# Altium schematic symbol library Oscillator - MEMS.SchLib: 171 symbols (part 1 of 3)
Pins are listed as number, name and electrical type; pins without a type are passive.

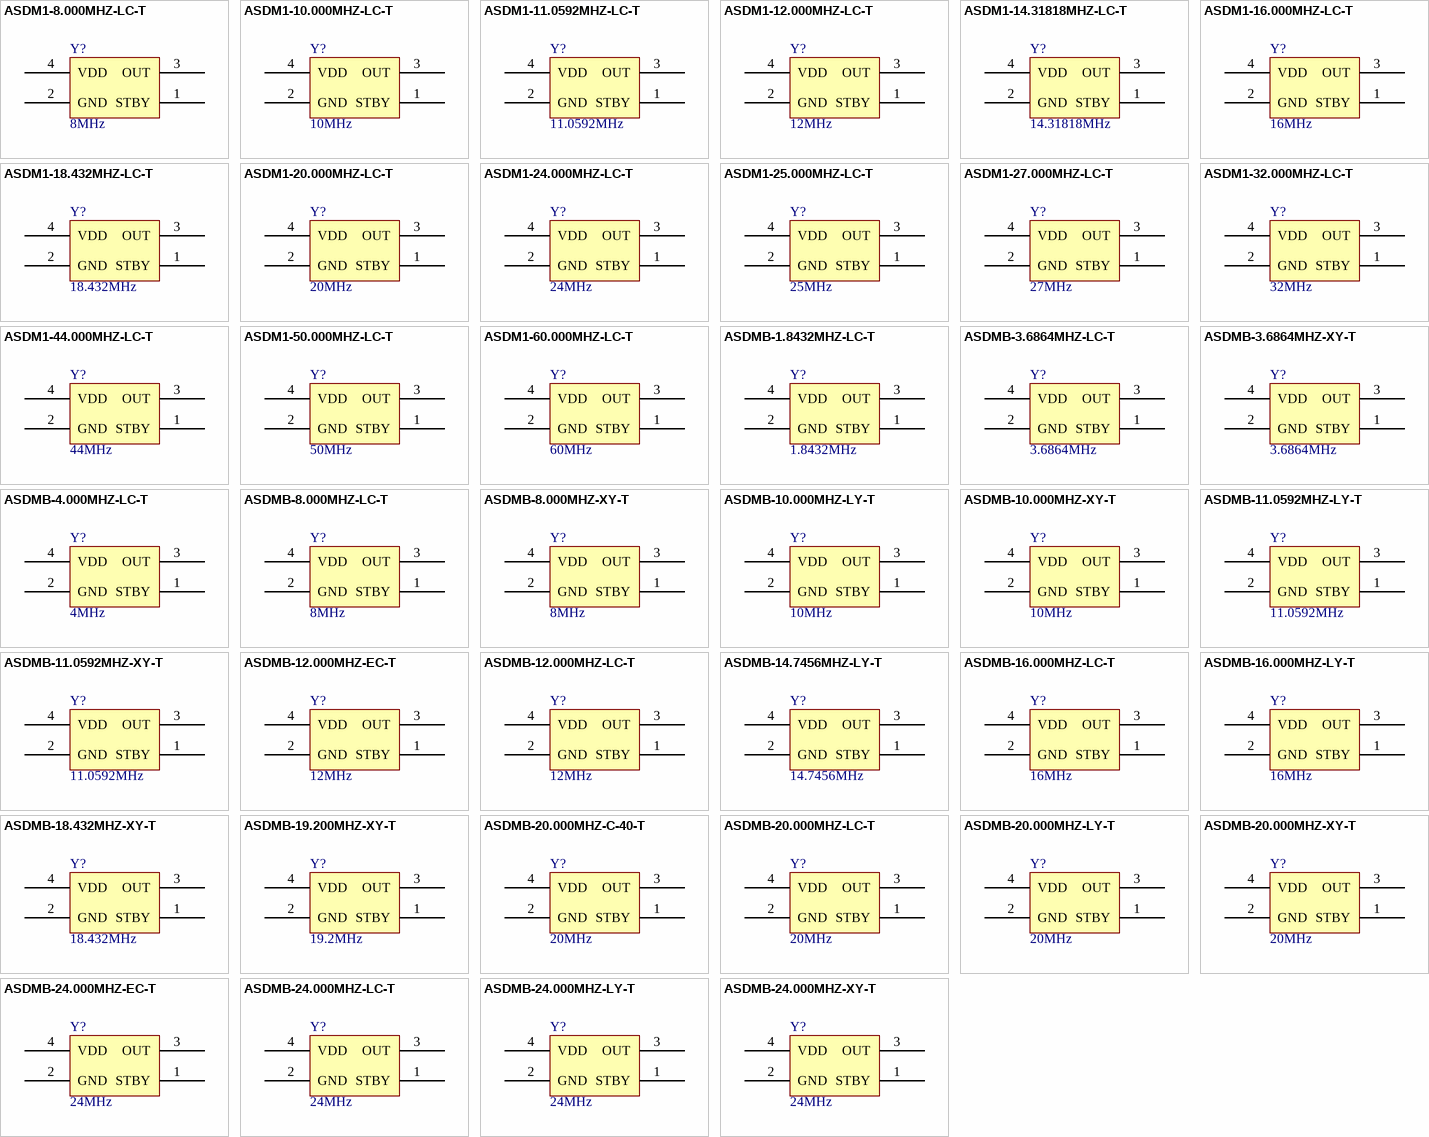
[diagram p0: symbols ASDM1-8.000MHZ-LC-T to ASDMB-24.000MHZ-XY-T]

## ASDM1-8.000MHZ-LC-T
designator Y?, comment 8MHz
OSC MEMS 8.000MHZ CMOS SMD; Part Number: ASDM1-8.000MHZ-LC-T; Manufacturer: Abracon LLC; Frequency Stability: 50ppm; PartId: 9128; Supplier 1: Digi-Key; Supplier Part Number 1: 535-9781-2-ND; ComponentLink1Description: Datasheet; ComponentLink1URL: http://www.abracon.com/Oscillators/ASDM.pdf; ComponentLink2Description: Digi-Key Listing; ComponentLink2URL: https://www.digikey.com/product-detail/en/ASDM1-8.000MHZ-LC-T/535-9781-2-ND/1873227; Price: 1.1505; Type: MEMS (Silicon); Device Package: 4-SMD, No Lead (DFN, LCC); Series: Pure Silicon™ ASDM; Frequency: 8MHz
footprint Abracon ASDM
pins: 1 STBY, 2 GND, 3 OUT, 4 VDD

## ASDM1-10.000MHZ-LC-T
designator Y?, comment 10MHz
OSC MEMS 10.000MHZ CMOS SMD; Part Number: ASDM1-10.000MHZ-LC-T; Manufacturer: Abracon LLC; Frequency Stability: 50ppm; PartId: 9127; Supplier 1: Digi-Key; Supplier Part Number 1: 535-9782-2-ND; ComponentLink1Description: Datasheet; ComponentLink1URL: http://www.abracon.com/Oscillators/ASDM.pdf; ComponentLink2Description: Digi-Key Listing; ComponentLink2URL: https://www.digikey.com/product-detail/en/ASDM1-10.000MHZ-LC-T/535-9782-2-ND/1873228; Price: 1.1505; Type: MEMS (Silicon); Device Package: 4-SMD, No Lead (DFN, LCC); Series: Pure Silicon™ ASDM; Frequency: 10MHz
footprint Abracon ASDM
pins: 1 STBY, 2 GND, 3 OUT, 4 VDD

## ASDM1-11.0592MHZ-LC-T
designator Y?, comment 11.0592MHz
OSC MEMS 11.0592MHZ CMOS SMD; Part Number: ASDM1-11.0592MHZ-LC-T; Manufacturer: Abracon LLC; Frequency Stability: 50ppm; PartId: 9131; Supplier 1: Digi-Key; Supplier Part Number 1: 535-9783-2-ND; ComponentLink1Description: Datasheet; ComponentLink1URL: http://www.abracon.com/Oscillators/ASDM.pdf; ComponentLink2Description: Digi-Key Listing; ComponentLink2URL: https://www.digikey.com/product-detail/en/ASDM1-11.0592MHZ-LC-T/535-9783-2-ND/1873229; Price: 1.1505; Type: MEMS (Silicon); Device Package: 4-SMD, No Lead (DFN, LCC); Series: Pure Silicon™ ASDM; Frequency: 11.0592MHz
footprint Abracon ASDM
pins: 1 STBY, 2 GND, 3 OUT, 4 VDD

## ASDM1-12.000MHZ-LC-T
designator Y?, comment 12MHz
OSC MEMS 12.000MHZ CMOS SMD; Part Number: ASDM1-12.000MHZ-LC-T; Manufacturer: Abracon LLC; Frequency Stability: 50ppm; PartId: 9121; Supplier 1: Digi-Key; Supplier Part Number 1: 535-9784-2-ND; ComponentLink1Description: Datasheet; ComponentLink1URL: http://www.abracon.com/Oscillators/ASDM.pdf; ComponentLink2Description: Digi-Key Listing; ComponentLink2URL: https://www.digikey.com/product-detail/en/ASDM1-12.000MHZ-LC-T/535-9784-2-ND/1873230; Price: 0.8555; Type: MEMS (Silicon); Device Package: 4-SMD, No Lead (DFN, LCC); Series: Pure Silicon™ ASDM; Frequency: 12MHz
footprint Abracon ASDM
pins: 1 STBY, 2 GND, 3 OUT, 4 VDD

## ASDM1-14.31818MHZ-LC-T
designator Y?, comment 14.31818MHz
OSC MEMS 14.31818MHZ CMOS SMD; Part Number: ASDM1-14.31818MHZ-LC-T; Manufacturer: Abracon LLC; Frequency Stability: 50ppm; PartId: 9125; Supplier 1: Digi-Key; Supplier Part Number 1: 535-9785-2-ND; ComponentLink1Description: Datasheet; ComponentLink1URL: http://www.abracon.com/Oscillators/ASDM.pdf; ComponentLink2Description: Digi-Key Listing; ComponentLink2URL: https://www.digikey.com/product-detail/en/ASDM1-14.31818MHZ-LC-T/535-9785-2-ND/1873231; Price: 1.1505; Type: MEMS (Silicon); Device Package: 4-SMD, No Lead (DFN, LCC); Series: Pure Silicon™ ASDM; Frequency: 14.31818MHz
footprint Abracon ASDM
pins: 1 STBY, 2 GND, 3 OUT, 4 VDD

## ASDM1-16.000MHZ-LC-T
designator Y?, comment 16MHz
OSC MEMS 16.000MHZ CMOS SMD; Part Number: ASDM1-16.000MHZ-LC-T; Manufacturer: Abracon LLC; Frequency Stability: 50ppm; PartId: 9132; Supplier 1: Digi-Key; Supplier Part Number 1: 535-9787-2-ND; ComponentLink1Description: Datasheet; ComponentLink1URL: http://www.abracon.com/Oscillators/ASDM.pdf; ComponentLink2Description: Digi-Key Listing; ComponentLink2URL: https://www.digikey.com/product-detail/en/ASDM1-16.000MHZ-LC-T/535-9787-2-ND/1873233; Price: 1.1505; Type: MEMS (Silicon); Device Package: 4-SMD, No Lead (DFN, LCC); Series: Pure Silicon™ ASDM; Frequency: 16MHz
footprint Abracon ASDM
pins: 1 STBY, 2 GND, 3 OUT, 4 VDD

## ASDM1-18.432MHZ-LC-T
designator Y?, comment 18.432MHz
OSC MEMS 18.432MHZ CMOS SMD; Part Number: ASDM1-18.432MHZ-LC-T; Manufacturer: Abracon LLC; Frequency Stability: 50ppm; PartId: 9130; Supplier 1: Digi-Key; Supplier Part Number 1: 535-9788-2-ND; ComponentLink1Description: Datasheet; ComponentLink1URL: http://www.abracon.com/Oscillators/ASDM.pdf; ComponentLink2Description: Digi-Key Listing; ComponentLink2URL: https://www.digikey.com/product-detail/en/ASDM1-18.432MHZ-LC-T/535-9788-2-ND/1873234; Price: 1.1505; Type: MEMS (Silicon); Device Package: 4-SMD, No Lead (DFN, LCC); Series: Pure Silicon™ ASDM; Frequency: 18.432MHz
footprint Abracon ASDM
pins: 1 STBY, 2 GND, 3 OUT, 4 VDD

## ASDM1-20.000MHZ-LC-T
designator Y?, comment 20MHz
OSC MEMS 20.000MHZ CMOS SMD; Part Number: ASDM1-20.000MHZ-LC-T; Manufacturer: Abracon LLC; Frequency Stability: 50ppm; PartId: 9124; Supplier 1: Digi-Key; Supplier Part Number 1: 535-9789-2-ND; ComponentLink1Description: Datasheet; ComponentLink1URL: http://www.abracon.com/Oscillators/ASDM.pdf; ComponentLink2Description: Digi-Key Listing; ComponentLink2URL: https://www.digikey.com/product-detail/en/ASDM1-20.000MHZ-LC-T/535-9789-2-ND/1873235; Price: 1.1505; Type: MEMS (Silicon); Device Package: 4-SMD, No Lead (DFN, LCC); Series: Pure Silicon™ ASDM; Frequency: 20MHz
footprint Abracon ASDM
pins: 1 STBY, 2 GND, 3 OUT, 4 VDD

## ASDM1-24.000MHZ-LC-T
designator Y?, comment 24MHz
OSC MEMS 24.000MHZ CMOS SMD; Part Number: ASDM1-24.000MHZ-LC-T; Manufacturer: Abracon LLC; Frequency Stability: 50ppm; PartId: 9133; Supplier 1: Digi-Key; Supplier Part Number 1: 535-9790-2-ND; ComponentLink1Description: Datasheet; ComponentLink1URL: http://www.abracon.com/Oscillators/ASDM.pdf; ComponentLink2Description: Digi-Key Listing; ComponentLink2URL: https://www.digikey.com/product-detail/en/ASDM1-24.000MHZ-LC-T/535-9790-2-ND/1873236; Price: 1.1505; Type: MEMS (Silicon); Device Package: 4-SMD, No Lead (DFN, LCC); Series: Pure Silicon™ ASDM; Frequency: 24MHz
footprint Abracon ASDM
pins: 1 STBY, 2 GND, 3 OUT, 4 VDD

## ASDM1-25.000MHZ-LC-T
designator Y?, comment 25MHz
OSC MEMS 25.000MHZ CMOS SMD; Part Number: ASDM1-25.000MHZ-LC-T; Manufacturer: Abracon LLC; Frequency Stability: 50ppm; PartId: 9120; Supplier 1: Digi-Key; Supplier Part Number 1: 535-9792-2-ND; ComponentLink1Description: Datasheet; ComponentLink1URL: http://www.abracon.com/Oscillators/ASDM.pdf; ComponentLink2Description: Digi-Key Listing; ComponentLink2URL: https://www.digikey.com/product-detail/en/ASDM1-25.000MHZ-LC-T/535-9792-2-ND/1873238; Price: 0.72; Type: MEMS (Silicon); Device Package: 4-SMD, No Lead (DFN, LCC); Series: Pure Silicon™ ASDM; Frequency: 25MHz
footprint Abracon ASDM
pins: 1 STBY, 2 GND, 3 OUT, 4 VDD

## ASDM1-27.000MHZ-LC-T
designator Y?, comment 27MHz
OSC MEMS 27.000MHZ CMOS SMD; Part Number: ASDM1-27.000MHZ-LC-T; Manufacturer: Abracon LLC; Frequency Stability: 50ppm; PartId: 9122; Supplier 1: Digi-Key; Supplier Part Number 1: 535-9793-2-ND; ComponentLink1Description: Datasheet; ComponentLink1URL: http://www.abracon.com/Oscillators/ASDM.pdf; ComponentLink2Description: Digi-Key Listing; ComponentLink2URL: https://www.digikey.com/product-detail/en/ASDM1-27.000MHZ-LC-T/535-9793-2-ND/1873239; Price: 1.1505; Type: MEMS (Silicon); Device Package: 4-SMD, No Lead (DFN, LCC); Series: Pure Silicon™ ASDM; Frequency: 27MHz
footprint Abracon ASDM
pins: 1 STBY, 2 GND, 3 OUT, 4 VDD

## ASDM1-32.000MHZ-LC-T
designator Y?, comment 32MHz
OSC MEMS 32.000MHZ CMOS SMD; Part Number: ASDM1-32.000MHZ-LC-T; Manufacturer: Abracon LLC; Frequency Stability: 50ppm; PartId: 9129; Supplier 1: Digi-Key; Supplier Part Number 1: 535-9796-2-ND; ComponentLink1Description: Datasheet; ComponentLink1URL: http://www.abracon.com/Oscillators/ASDM.pdf; ComponentLink2Description: Digi-Key Listing; ComponentLink2URL: https://www.digikey.com/product-detail/en/ASDM1-32.000MHZ-LC-T/535-9796-2-ND/1873242; Price: 1.1505; Type: MEMS (Silicon); Device Package: 4-SMD, No Lead (DFN, LCC); Series: Pure Silicon™ ASDM; Frequency: 32MHz
footprint Abracon ASDM
pins: 1 STBY, 2 GND, 3 OUT, 4 VDD

## ASDM1-44.000MHZ-LC-T
designator Y?, comment 44MHz
OSC MEMS 44.000MHZ CMOS SMD; Part Number: ASDM1-44.000MHZ-LC-T; Manufacturer: Abracon LLC; Frequency Stability: 50ppm; PartId: 9134; Supplier 1: Digi-Key; Supplier Part Number 1: 535-9799-2-ND; ComponentLink1Description: Datasheet; ComponentLink1URL: http://www.abracon.com/Oscillators/ASDM.pdf; ComponentLink2Description: Digi-Key Listing; ComponentLink2URL: https://www.digikey.com/product-detail/en/ASDM1-44.000MHZ-LC-T/535-9799-2-ND/1873245; Price: 1.1505; Type: MEMS (Silicon); Device Package: 4-SMD, No Lead (DFN, LCC); Series: Pure Silicon™ ASDM; Frequency: 44MHz
footprint Abracon ASDM
pins: 1 STBY, 2 GND, 3 OUT, 4 VDD

## ASDM1-50.000MHZ-LC-T
designator Y?, comment 50MHz
OSC MEMS 50.000MHZ CMOS SMD; Part Number: ASDM1-50.000MHZ-LC-T; Manufacturer: Abracon LLC; Frequency Stability: 50ppm; PartId: 9123; Supplier 1: Digi-Key; Supplier Part Number 1: 535-9801-2-ND; ComponentLink1Description: Datasheet; ComponentLink1URL: http://www.abracon.com/Oscillators/ASDM.pdf; ComponentLink2Description: Digi-Key Listing; ComponentLink2URL: https://www.digikey.com/product-detail/en/ASDM1-50.000MHZ-LC-T/535-9801-2-ND/1873247; Price: 1.1505; Type: MEMS (Silicon); Device Package: 4-SMD, No Lead (DFN, LCC); Series: Pure Silicon™ ASDM; Frequency: 50MHz
footprint Abracon ASDM
pins: 1 STBY, 2 GND, 3 OUT, 4 VDD

## ASDM1-60.000MHZ-LC-T
designator Y?, comment 60MHz
OSC MEMS 60.000MHZ CMOS SMD; Part Number: ASDM1-60.000MHZ-LC-T; Manufacturer: Abracon LLC; Frequency Stability: 50ppm; PartId: 9126; Supplier 1: Digi-Key; Supplier Part Number 1: 535-9802-2-ND; ComponentLink1Description: Datasheet; ComponentLink1URL: http://www.abracon.com/Oscillators/ASDM.pdf; ComponentLink2Description: Digi-Key Listing; ComponentLink2URL: https://www.digikey.com/product-detail/en/ASDM1-60.000MHZ-LC-T/535-9802-2-ND/1873248; Price: 1.1505; Type: MEMS (Silicon); Device Package: 4-SMD, No Lead (DFN, LCC); Series: Pure Silicon™ ASDM; Frequency: 60MHz
footprint Abracon ASDM
pins: 1 STBY, 2 GND, 3 OUT, 4 VDD

## ASDMB-1.8432MHZ-LC-T
designator Y?, comment 1.8432MHz
OSC MEMS 1.8432MHZ CMOS SMD; Part Number: ASDMB-1.8432MHZ-LC-T; Manufacturer: Abracon LLC; Frequency Stability: 50ppm; PartId: 8977; Supplier 1: Digi-Key; Supplier Part Number 1: 535-11722-2-ND; ComponentLink1Description: Datasheet; ComponentLink1URL: http://www.abracon.com/Oscillators/ASDMB.pdf; ComponentLink2Description: Digi-Key Listing; ComponentLink2URL: https://www.digikey.com/product-detail/en/ASDMB-1.8432MHZ-LC-T/535-11722-2-ND/2809920; Price: 0.675; Type: MEMS (Silicon); Device Package: 4-SMD, No Lead (DFN, LCC); Series: Pure Silicon™ ASDMB; Frequency: 1.8432MHz
footprint ABRACON ASDMB
pins: 1 STBY, 2 GND, 3 OUT, 4 VDD

## ASDMB-3.6864MHZ-LC-T
designator Y?, comment 3.6864MHz
OSC MEMS 3.6864MHZ CMOS SMD; Part Number: ASDMB-3.6864MHZ-LC-T; Manufacturer: Abracon LLC; Frequency Stability: 50ppm; PartId: 9011; Supplier 1: Digi-Key; Supplier Part Number 1: 535-11732-2-ND; ComponentLink1Description: Datasheet; ComponentLink1URL: http://www.abracon.com/Oscillators/ASDMB.pdf; ComponentLink2Description: Digi-Key Listing; ComponentLink2URL: https://www.digikey.com/product-detail/en/ASDMB-3.6864MHZ-LC-T/535-11732-2-ND/2809950; Price: 0.675; Type: MEMS (Silicon); Device Package: 4-SMD, No Lead (DFN, LCC); Series: Pure Silicon™ ASDMB; Frequency: 3.6864MHz
footprint ABRACON ASDMB
pins: 1 STBY, 2 GND, 3 OUT, 4 VDD

## ASDMB-3.6864MHZ-XY-T
designator Y?, comment 3.6864MHz
OSC MEMS 3.6864MHZ CMOS SMD; Part Number: ASDMB-3.6864MHZ-XY-T; Manufacturer: Abracon LLC; Frequency Stability: 10ppm; PartId: 9007; Supplier 1: Digi-Key; Supplier Part Number 1: 535-11161-2-ND; ComponentLink1Description: Datasheet; ComponentLink1URL: http://www.abracon.com/Oscillators/ASDMB.pdf; ComponentLink2Description: Digi-Key Listing; ComponentLink2URL: https://www.digikey.com/product-detail/en/ASDMB-3.6864MHZ-XY-T/535-11161-2-ND/2623842; Price: 1.4307; Type: MEMS (Silicon); Device Package: 4-SMD, No Lead (DFN, LCC); Series: Pure Silicon™ ASDMB; Frequency: 3.6864MHz
footprint ABRACON ASDMB
pins: 1 STBY, 2 GND, 3 OUT, 4 VDD

## ASDMB-4.000MHZ-LC-T
designator Y?, comment 4MHz
OSC MEMS 4.000MHZ CMOS SMD; Part Number: ASDMB-4.000MHZ-LC-T; Manufacturer: Abracon LLC; Frequency Stability: 50ppm; PartId: 8965; Supplier 1: Digi-Key; Supplier Part Number 1: 535-11736-2-ND; ComponentLink1Description: Datasheet; ComponentLink1URL: http://www.abracon.com/Oscillators/ASDMB.pdf; ComponentLink2Description: Digi-Key Listing; ComponentLink2URL: https://www.digikey.com/product-detail/en/ASDMB-4.000MHZ-LC-T/535-11736-2-ND/2809962; Price: 0.675; Type: MEMS (Silicon); Device Package: 4-SMD, No Lead (DFN, LCC); Series: Pure Silicon™ ASDMB; Frequency: 4MHz
footprint ABRACON ASDMB
pins: 1 STBY, 2 GND, 3 OUT, 4 VDD

## ASDMB-8.000MHZ-LC-T
designator Y?, comment 8MHz
OSC MEMS 8.000MHZ CMOS SMD; Part Number: ASDMB-8.000MHZ-LC-T; Manufacturer: Abracon LLC; Frequency Stability: 50ppm; PartId: 8953; Supplier 1: Digi-Key; Supplier Part Number 1: 535-11740-2-ND; ComponentLink1Description: Datasheet; ComponentLink1URL: http://www.abracon.com/Oscillators/ASDMB.pdf; ComponentLink2Description: Digi-Key Listing; ComponentLink2URL: https://www.digikey.com/product-detail/en/ASDMB-8.000MHZ-LC-T/535-11740-2-ND/2809974; Price: 0.675; Type: MEMS (Silicon); Device Package: 4-SMD, No Lead (DFN, LCC); Series: Pure Silicon™ ASDMB; Frequency: 8MHz
footprint ABRACON ASDMB
pins: 1 STBY, 2 GND, 3 OUT, 4 VDD

## ASDMB-8.000MHZ-XY-T
designator Y?, comment 8MHz
OSC MEMS 8.000MHZ CMOS SMD; Part Number: ASDMB-8.000MHZ-XY-T; Manufacturer: Abracon LLC; Frequency Stability: 10ppm; PartId: 9004; Supplier 1: Digi-Key; Supplier Part Number 1: 535-11170-2-ND; ComponentLink1Description: Datasheet; ComponentLink1URL: http://www.abracon.com/Oscillators/ASDMB.pdf; ComponentLink2Description: Digi-Key Listing; ComponentLink2URL: https://www.digikey.com/product-detail/en/ASDMB-8.000MHZ-XY-T/535-11170-2-ND/2623866; Price: 1.4307; Type: MEMS (Silicon); Device Package: 4-SMD, No Lead (DFN, LCC); Series: Pure Silicon™ ASDMB; Frequency: 8MHz
footprint ABRACON ASDMB
pins: 1 STBY, 2 GND, 3 OUT, 4 VDD

## ASDMB-10.000MHZ-LY-T
designator Y?, comment 10MHz
OSC MEMS 10.000MHZ CMOS SMD; Part Number: ASDMB-10.000MHZ-LY-T; Manufacturer: Abracon LLC; Frequency Stability: 10ppm; PartId: 8994; Supplier 1: Digi-Key; Supplier Part Number 1: 535-11275-2-ND; ComponentLink1Description: Datasheet; ComponentLink1URL: http://www.abracon.com/Oscillators/ASDMB.pdf; ComponentLink2Description: Digi-Key Listing; ComponentLink2URL: https://www.digikey.com/product-detail/en/ASDMB-10.000MHZ-LY-T/535-11275-2-ND/2623805; Price: 1.2832; Type: MEMS (Silicon); Device Package: 4-SMD, No Lead (DFN, LCC); Series: Pure Silicon™ ASDMB; Frequency: 10MHz
footprint ABRACON ASDMB
pins: 1 STBY, 2 GND, 3 OUT, 4 VDD

## ASDMB-10.000MHZ-XY-T
designator Y?, comment 10MHz
OSC MEMS 10.000MHZ CMOS SMD; Part Number: ASDMB-10.000MHZ-XY-T; Manufacturer: Abracon LLC; Frequency Stability: 10ppm; PartId: 8972; Supplier 1: Digi-Key; Supplier Part Number 1: 535-11171-2-ND; ComponentLink1Description: Datasheet; ComponentLink1URL: http://www.abracon.com/Oscillators/ASDMB.pdf; ComponentLink2Description: Digi-Key Listing; ComponentLink2URL: https://www.digikey.com/product-detail/en/ASDMB-10.000MHZ-XY-T/535-11171-2-ND/2623806; Price: 1.4307; Type: MEMS (Silicon); Device Package: 4-SMD, No Lead (DFN, LCC); Series: Pure Silicon™ ASDMB; Frequency: 10MHz
footprint ABRACON ASDMB
pins: 1 STBY, 2 GND, 3 OUT, 4 VDD

## ASDMB-11.0592MHZ-LY-T
designator Y?, comment 11.0592MHz
OSC MEMS 11.0592MHZ CMOS SMD; Part Number: ASDMB-11.0592MHZ-LY-T; Manufacturer: Abracon LLC; Frequency Stability: 10ppm; PartId: 8996; Supplier 1: Digi-Key; Supplier Part Number 1: 535-11179-2-ND; ComponentLink1Description: Datasheet; ComponentLink1URL: http://www.abracon.com/Oscillators/ASDMB.pdf; ComponentLink2Description: Digi-Key Listing; ComponentLink2URL: https://www.digikey.com/product-detail/en/ASDMB-11.0592MHZ-LY-T/535-11179-2-ND/2623809; Price: 1.2832; Type: MEMS (Silicon); Device Package: 4-SMD, No Lead (DFN, LCC); Series: Pure Silicon™ ASDMB; Frequency: 11.0592MHz
footprint ABRACON ASDMB
pins: 1 STBY, 2 GND, 3 OUT, 4 VDD

## ASDMB-11.0592MHZ-XY-T
designator Y?, comment 11.0592MHz
OSC MEMS 11.0592MHZ CMOS SMD; Part Number: ASDMB-11.0592MHZ-XY-T; Manufacturer: Abracon LLC; Frequency Stability: 10ppm; PartId: 8999; Supplier 1: Digi-Key; Supplier Part Number 1: 535-11148-2-ND; ComponentLink1Description: Datasheet; ComponentLink1URL: http://www.abracon.com/Oscillators/ASDMB.pdf; ComponentLink2Description: Digi-Key Listing; ComponentLink2URL: https://www.digikey.com/product-detail/en/ASDMB-11.0592MHZ-XY-T/535-11148-2-ND/2623810; Price: 1.4307; Type: MEMS (Silicon); Device Package: 4-SMD, No Lead (DFN, LCC); Series: Pure Silicon™ ASDMB; Frequency: 11.0592MHz
footprint ABRACON ASDMB
pins: 1 STBY, 2 GND, 3 OUT, 4 VDD

## ASDMB-12.000MHZ-EC-T
designator Y?, comment 12MHz
OSC MEMS 12.000MHZ LVCMOS SMD; Part Number: ASDMB-12.000MHZ-EC-T; Manufacturer: Abracon LLC; Frequency Stability: 50ppm; PartId: 8979; Supplier 1: Digi-Key; Supplier Part Number 1: 535-12137-2-ND; ComponentLink1Description: Datasheet; ComponentLink1URL: http://www.abracon.com/Oscillators/ASDMB.pdf; ComponentLink2Description: Digi-Key Listing; ComponentLink2URL: https://www.digikey.com/product-detail/en/ASDMB-12.000MHZ-EC-T/535-12137-2-ND/4199801; Price: 0.9513; Type: MEMS (Silicon); Device Package: 4-SMD, No Lead (DFN, LCC); Series: Pure Silicon™ ASDMB; Frequency: 12MHz
footprint ABRACON ASDMB
pins: 1 STBY, 2 GND, 3 OUT, 4 VDD

## ASDMB-12.000MHZ-LC-T
designator Y?, comment 12MHz
OSC MEMS 12.000MHZ CMOS SMD; Part Number: ASDMB-12.000MHZ-LC-T; Manufacturer: Abracon LLC; Frequency Stability: 50ppm; PartId: 8950; Supplier 1: Digi-Key; Supplier Part Number 1: 535-11724-2-ND; ComponentLink1Description: Datasheet; ComponentLink1URL: http://www.abracon.com/Oscillators/ASDMB.pdf; ComponentLink2Description: Digi-Key Listing; ComponentLink2URL: https://www.digikey.com/product-detail/en/ASDMB-12.000MHZ-LC-T/535-11724-2-ND/2809926; Price: 0.675; Type: MEMS (Silicon); Device Package: 4-SMD, No Lead (DFN, LCC); Series: Pure Silicon™ ASDMB; Frequency: 12MHz
footprint ABRACON ASDMB
pins: 1 STBY, 2 GND, 3 OUT, 4 VDD

## ASDMB-14.7456MHZ-LY-T
designator Y?, comment 14.7456MHz
OSC MEMS 14.7456MHZ CMOS SMD; Part Number: ASDMB-14.7456MHZ-LY-T; Manufacturer: Abracon LLC; Frequency Stability: 10ppm; PartId: 8991; Supplier 1: Digi-Key; Supplier Part Number 1: 535-11182-2-ND; ComponentLink1Description: Datasheet; ComponentLink1URL: http://www.abracon.com/Oscillators/ASDMB.pdf; ComponentLink2Description: Digi-Key Listing; ComponentLink2URL: https://www.digikey.com/product-detail/en/ASDMB-14.7456MHZ-LY-T/535-11182-2-ND/2623819; Price: 1.2832; Type: MEMS (Silicon); Device Package: 4-SMD, No Lead (DFN, LCC); Series: Pure Silicon™ ASDMB; Frequency: 14.7456MHz
footprint ABRACON ASDMB
pins: 1 STBY, 2 GND, 3 OUT, 4 VDD

## ASDMB-16.000MHZ-LC-T
designator Y?, comment 16MHz
OSC MEMS 16.000MHZ CMOS SMD; Part Number: ASDMB-16.000MHZ-LC-T; Manufacturer: Abracon LLC; Frequency Stability: 50ppm; PartId: 8963; Supplier 1: Digi-Key; Supplier Part Number 1: 535-11726-2-ND; ComponentLink1Description: Datasheet; ComponentLink1URL: http://www.abracon.com/Oscillators/ASDMB.pdf; ComponentLink2Description: Digi-Key Listing; ComponentLink2URL: https://www.digikey.com/product-detail/en/ASDMB-16.000MHZ-LC-T/535-11726-2-ND/2809932; Price: 0.675; Type: MEMS (Silicon); Device Package: 4-SMD, No Lead (DFN, LCC); Series: Pure Silicon™ ASDMB; Frequency: 16MHz
footprint ABRACON ASDMB
pins: 1 STBY, 2 GND, 3 OUT, 4 VDD

## ASDMB-16.000MHZ-LY-T
designator Y?, comment 16MHz
OSC MEMS 16.000MHZ CMOS SMD; Part Number: ASDMB-16.000MHZ-LY-T; Manufacturer: Abracon LLC; Frequency Stability: 10ppm; PartId: 8995; Supplier 1: Digi-Key; Supplier Part Number 1: 535-11456-2-ND; ComponentLink1Description: Datasheet; ComponentLink1URL: http://www.abracon.com/Oscillators/ASDMB.pdf; ComponentLink2Description: Digi-Key Listing; ComponentLink2URL: https://www.digikey.com/product-detail/en/ASDMB-16.000MHZ-LY-T/535-11456-2-ND/2679522; Price: 1.2832; Type: MEMS (Silicon); Device Package: 4-SMD, No Lead (DFN, LCC); Series: Pure Silicon™ ASDMB; Frequency: 16MHz
footprint ABRACON ASDMB
pins: 1 STBY, 2 GND, 3 OUT, 4 VDD

## ASDMB-18.432MHZ-XY-T
designator Y?, comment 18.432MHz
OSC MEMS 18.432MHZ CMOS SMD; Part Number: ASDMB-18.432MHZ-XY-T; Manufacturer: Abracon LLC; Frequency Stability: 10ppm; PartId: 9002; Supplier 1: Digi-Key; Supplier Part Number 1: 535-11152-2-ND; ComponentLink1Description: Datasheet; ComponentLink1URL: http://www.abracon.com/Oscillators/ASDMB.pdf; ComponentLink2Description: Digi-Key Listing; ComponentLink2URL: https://www.digikey.com/product-detail/en/ASDMB-18.432MHZ-XY-T/535-11152-2-ND/2623824; Price: 1.4307; Type: MEMS (Silicon); Device Package: 4-SMD, No Lead (DFN, LCC); Series: Pure Silicon™ ASDMB; Frequency: 18.432MHz
footprint ABRACON ASDMB
pins: 1 STBY, 2 GND, 3 OUT, 4 VDD

## ASDMB-19.200MHZ-XY-T
designator Y?, comment 19.2MHz
OSC MEMS 19.2MHZ CMOS SMD; Part Number: ASDMB-19.200MHZ-XY-T; Manufacturer: Abracon LLC; Frequency Stability: 10ppm; PartId: 8967; Supplier 1: Digi-Key; Supplier Part Number 1: 535-11153-2-ND; ComponentLink1Description: Datasheet; ComponentLink1URL: http://www.abracon.com/Oscillators/ASDMB.pdf; ComponentLink2Description: Digi-Key Listing; ComponentLink2URL: https://www.digikey.com/product-detail/en/ASDMB-19.200MHZ-XY-T/535-11153-2-ND/2623826; Price: 1.4307; Type: MEMS (Silicon); Device Package: 4-SMD, No Lead (DFN, LCC); Series: Pure Silicon™ ASDMB; Frequency: 19.2MHz
footprint ABRACON ASDMB
pins: 1 STBY, 2 GND, 3 OUT, 4 VDD

## ASDMB-20.000MHZ-C-40-T
designator Y?, comment 20MHz
OSC MEMS 20.000MHZ LVCMOS SMD; Part Number: ASDMB-20.000MHZ-C-40-T; Manufacturer: Abracon LLC; Frequency Stability: 50ppm; PartId: 8985; Supplier 1: Digi-Key; Supplier Part Number 1: 535-12147-2-ND; ComponentLink1Description: Datasheet; ComponentLink1URL: http://www.abracon.com/Oscillators/ASDMB.pdf; ComponentLink2Description: Digi-Key Listing; ComponentLink2URL: https://www.digikey.com/product-detail/en/ASDMB-20.000MHZ-C-40-T/535-12147-2-ND/4199808; Price: 1.0767; Type: MEMS (Silicon); Device Package: 4-SMD, No Lead (DFN, LCC); Series: Pure Silicon™ ASDMB; Frequency: 20MHz
footprint ABRACON ASDMB
pins: 1 STBY, 2 GND, 3 OUT, 4 VDD

## ASDMB-20.000MHZ-LC-T
designator Y?, comment 20MHz
OSC MEMS 20.000MHZ CMOS SMD; Part Number: ASDMB-20.000MHZ-LC-T; Manufacturer: Abracon LLC; Frequency Stability: 50ppm; PartId: 9012; Supplier 1: Digi-Key; Supplier Part Number 1: 535-11727-2-ND; ComponentLink1Description: Datasheet; ComponentLink1URL: http://www.abracon.com/Oscillators/ASDMB.pdf; ComponentLink2Description: Digi-Key Listing; ComponentLink2URL: https://www.digikey.com/product-detail/en/ASDMB-20.000MHZ-LC-T/535-11727-2-ND/2809935; Price: 0.675; Type: MEMS (Silicon); Device Package: 4-SMD, No Lead (DFN, LCC); Series: Pure Silicon™ ASDMB; Frequency: 20MHz
footprint ABRACON ASDMB
pins: 1 STBY, 2 GND, 3 OUT, 4 VDD

## ASDMB-20.000MHZ-LY-T
designator Y?, comment 20MHz
OSC MEMS 20.000MHZ CMOS SMD; Part Number: ASDMB-20.000MHZ-LY-T; Manufacturer: Abracon LLC; Frequency Stability: 10ppm; PartId: 8987; Supplier 1: Digi-Key; Supplier Part Number 1: 535-11185-2-ND; ComponentLink1Description: Datasheet; ComponentLink1URL: http://www.abracon.com/Oscillators/ASDMB.pdf; ComponentLink2Description: Digi-Key Listing; ComponentLink2URL: https://www.digikey.com/product-detail/en/ASDMB-20.000MHZ-LY-T/535-11185-2-ND/2623827; Price: 1.2832; Type: MEMS (Silicon); Device Package: 4-SMD, No Lead (DFN, LCC); Series: Pure Silicon™ ASDMB; Frequency: 20MHz
footprint ABRACON ASDMB
pins: 1 STBY, 2 GND, 3 OUT, 4 VDD

## ASDMB-20.000MHZ-XY-T
designator Y?, comment 20MHz
OSC MEMS 20.000MHZ CMOS SMD; Part Number: ASDMB-20.000MHZ-XY-T; Manufacturer: Abracon LLC; Frequency Stability: 10ppm; PartId: 8959; Supplier 1: Digi-Key; Supplier Part Number 1: 535-11154-2-ND; ComponentLink1Description: Datasheet; ComponentLink1URL: http://www.abracon.com/Oscillators/ASDMB.pdf; ComponentLink2Description: Digi-Key Listing; ComponentLink2URL: https://www.digikey.com/product-detail/en/ASDMB-20.000MHZ-XY-T/535-11154-2-ND/2623828; Price: 1.4307; Type: MEMS (Silicon); Device Package: 4-SMD, No Lead (DFN, LCC); Series: Pure Silicon™ ASDMB; Frequency: 20MHz
footprint ABRACON ASDMB
pins: 1 STBY, 2 GND, 3 OUT, 4 VDD

## ASDMB-24.000MHZ-EC-T
designator Y?, comment 24MHz
OSC MEMS 24.000MHZ LVCMOS SMD; Part Number: ASDMB-24.000MHZ-EC-T; Manufacturer: Abracon LLC; Frequency Stability: 50ppm; PartId: 8971; Supplier 1: Digi-Key; Supplier Part Number 1: 535-12139-2-ND; ComponentLink1Description: Datasheet; ComponentLink1URL: http://www.abracon.com/Oscillators/ASDMB.pdf; ComponentLink2Description: Digi-Key Listing; ComponentLink2URL: https://www.digikey.com/product-detail/en/ASDMB-24.000MHZ-EC-T/535-12139-2-ND/4199802; Price: 0.9513; Type: MEMS (Silicon); Device Package: 4-SMD, No Lead (DFN, LCC); Series: Pure Silicon™ ASDMB; Frequency: 24MHz
footprint ABRACON ASDMB
pins: 1 STBY, 2 GND, 3 OUT, 4 VDD

## ASDMB-24.000MHZ-LC-T
designator Y?, comment 24MHz
OSC MEMS 24.000MHZ CMOS SMD; Part Number: ASDMB-24.000MHZ-LC-T; Manufacturer: Abracon LLC; Frequency Stability: 50ppm; PartId: 8947; Supplier 1: Digi-Key; Supplier Part Number 1: 535-11728-2-ND; ComponentLink1Description: Datasheet; ComponentLink1URL: http://www.abracon.com/Oscillators/ASDMB.pdf; ComponentLink2Description: Digi-Key Listing; ComponentLink2URL: https://www.digikey.com/product-detail/en/ASDMB-24.000MHZ-LC-T/535-11728-2-ND/2809938; Price: 0.66; Type: MEMS (Silicon); Device Package: 4-SMD, No Lead (DFN, LCC); Series: Pure Silicon™ ASDMB; Frequency: 24MHz
footprint ABRACON ASDMB
pins: 1 STBY, 2 GND, 3 OUT, 4 VDD

## ASDMB-24.000MHZ-LY-T
designator Y?, comment 24MHz
OSC MEMS 24.000MHZ CMOS SMD; Part Number: ASDMB-24.000MHZ-LY-T; Manufacturer: Abracon LLC; Frequency Stability: 10ppm; PartId: 8956; Supplier 1: Digi-Key; Supplier Part Number 1: 535-11186-2-ND; ComponentLink1Description: Datasheet; ComponentLink1URL: http://www.abracon.com/Oscillators/ASDMB.pdf; ComponentLink2Description: Digi-Key Listing; ComponentLink2URL: https://www.digikey.com/product-detail/en/ASDMB-24.000MHZ-LY-T/535-11186-2-ND/2623829; Price: 1.2832; Type: MEMS (Silicon); Device Package: 4-SMD, No Lead (DFN, LCC); Series: Pure Silicon™ ASDMB; Frequency: 24MHz
footprint ABRACON ASDMB
pins: 1 STBY, 2 GND, 3 OUT, 4 VDD

## ASDMB-24.000MHZ-XY-T
designator Y?, comment 24MHz
OSC MEMS 24.000MHZ CMOS SMD; Part Number: ASDMB-24.000MHZ-XY-T; Manufacturer: Abracon LLC; Frequency Stability: 10ppm; PartId: 8955; Supplier 1: Digi-Key; Supplier Part Number 1: 535-11155-2-ND; ComponentLink1Description: Datasheet; ComponentLink1URL: http://www.abracon.com/Oscillators/ASDMB.pdf; ComponentLink2Description: Digi-Key Listing; ComponentLink2URL: https://www.digikey.com/product-detail/en/ASDMB-24.000MHZ-XY-T/535-11155-2-ND/2623830; Price: 1.239; Type: MEMS (Silicon); Device Package: 4-SMD, No Lead (DFN, LCC); Series: Pure Silicon™ ASDMB; Frequency: 24MHz
footprint ABRACON ASDMB
pins: 1 STBY, 2 GND, 3 OUT, 4 VDD

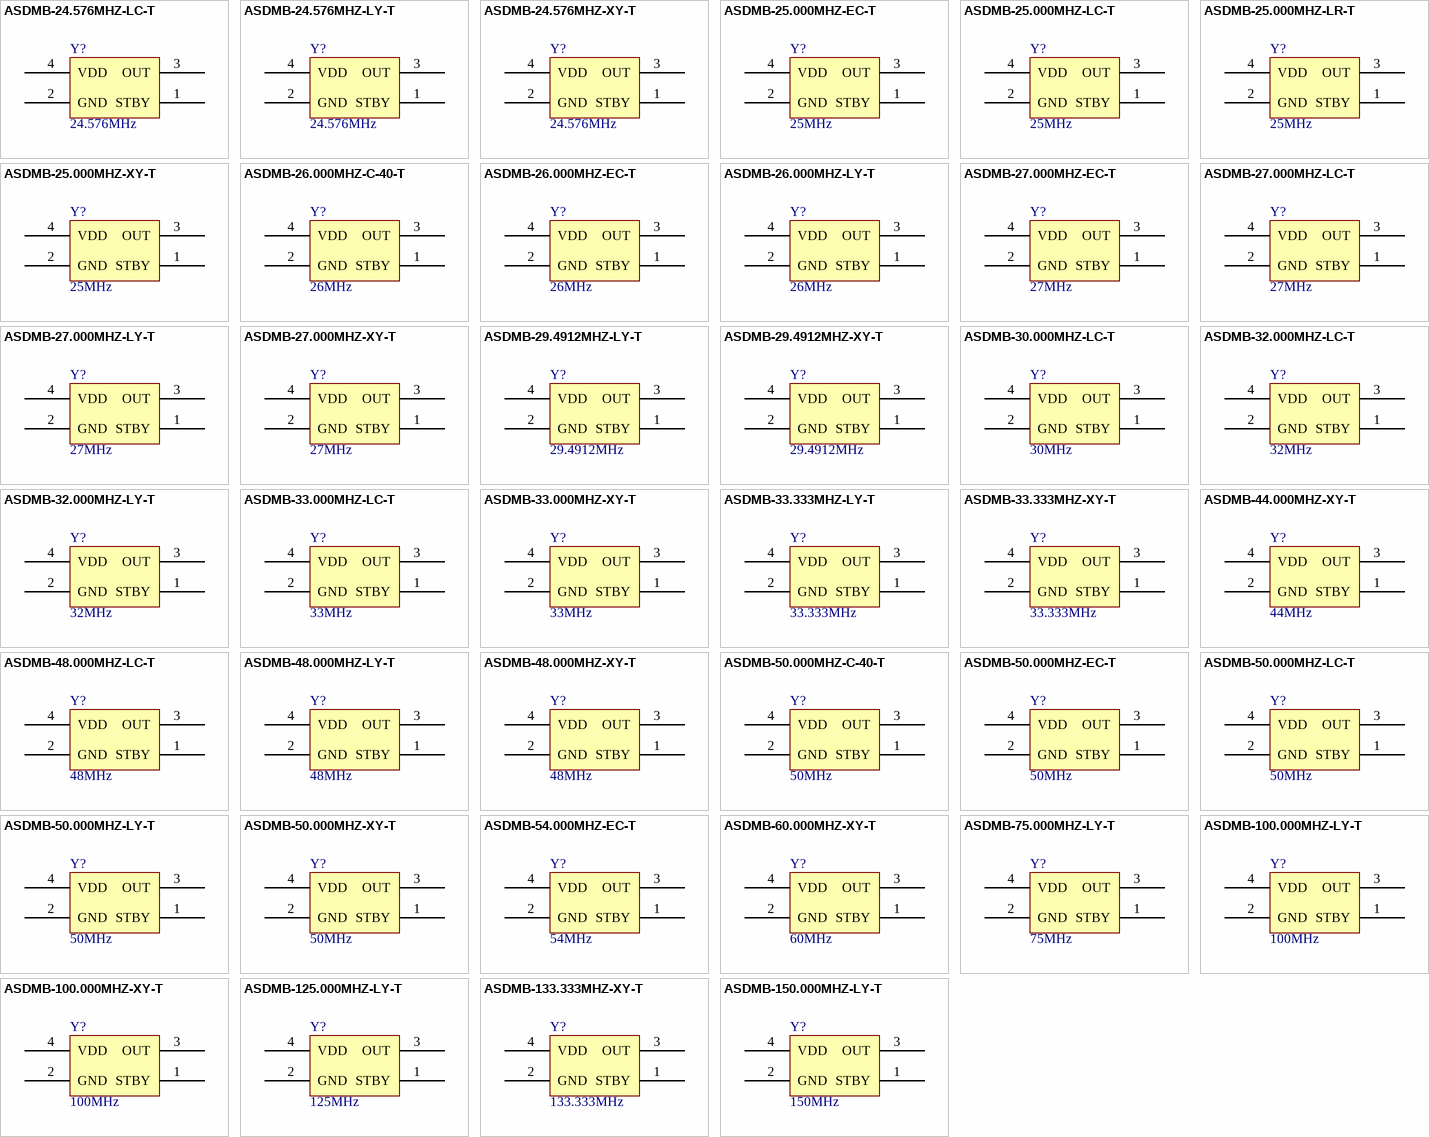
[diagram p1: symbols ASDMB-24.576MHZ-LC-T to ASDMB-150.000MHZ-LY-T]

## ASDMB-24.576MHZ-LC-T
designator Y?, comment 24.576MHz
OSC MEMS 24.576MHZ CMOS SMD; Part Number: ASDMB-24.576MHZ-LC-T; Manufacturer: Abracon LLC; Frequency Stability: 50ppm; PartId: 8948; Supplier 1: Digi-Key; Supplier Part Number 1: 535-11729-2-ND; ComponentLink1Description: Datasheet; ComponentLink1URL: http://www.abracon.com/Oscillators/ASDMB.pdf; ComponentLink2Description: Digi-Key Listing; ComponentLink2URL: https://www.digikey.com/product-detail/en/ASDMB-24.576MHZ-LC-T/535-11729-2-ND/2809941; Price: 0.675; Type: MEMS (Silicon); Device Package: 4-SMD, No Lead (DFN, LCC); Series: Pure Silicon™ ASDMB; Frequency: 24.576MHz
footprint ABRACON ASDMB
pins: 1 STBY, 2 GND, 3 OUT, 4 VDD

## ASDMB-24.576MHZ-LY-T
designator Y?, comment 24.576MHz
OSC MEMS 24.576MHZ CMOS SMD; Part Number: ASDMB-24.576MHZ-LY-T; Manufacturer: Abracon LLC; Frequency Stability: 10ppm; PartId: 8988; Supplier 1: Digi-Key; Supplier Part Number 1: 535-11187-2-ND; ComponentLink1Description: Datasheet; ComponentLink1URL: http://www.abracon.com/Oscillators/ASDMB.pdf; ComponentLink2Description: Digi-Key Listing; ComponentLink2URL: https://www.digikey.com/product-detail/en/ASDMB-24.576MHZ-LY-T/535-11187-2-ND/2623831; Price: 1.2832; Type: MEMS (Silicon); Device Package: 4-SMD, No Lead (DFN, LCC); Series: Pure Silicon™ ASDMB; Frequency: 24.576MHz
footprint ABRACON ASDMB
pins: 1 STBY, 2 GND, 3 OUT, 4 VDD

## ASDMB-24.576MHZ-XY-T
designator Y?, comment 24.576MHz
OSC MEMS 24.576MHZ CMOS SMD; Part Number: ASDMB-24.576MHZ-XY-T; Manufacturer: Abracon LLC; Frequency Stability: 10ppm; PartId: 8998; Supplier 1: Digi-Key; Supplier Part Number 1: 535-11156-2-ND; ComponentLink1Description: Datasheet; ComponentLink1URL: http://www.abracon.com/Oscillators/ASDMB.pdf; ComponentLink2Description: Digi-Key Listing; ComponentLink2URL: https://www.digikey.com/product-detail/en/ASDMB-24.576MHZ-XY-T/535-11156-2-ND/2623832; Price: 1.4307; Type: MEMS (Silicon); Device Package: 4-SMD, No Lead (DFN, LCC); Series: Pure Silicon™ ASDMB; Frequency: 24.576MHz
footprint ABRACON ASDMB
pins: 1 STBY, 2 GND, 3 OUT, 4 VDD

## ASDMB-25.000MHZ-EC-T
designator Y?, comment 25MHz
OSC MEMS 25.000MHZ LVCMOS SMD; Part Number: ASDMB-25.000MHZ-EC-T; Manufacturer: Abracon LLC; Frequency Stability: 50ppm; PartId: 8981; Supplier 1: Digi-Key; Supplier Part Number 1: 535-12140-2-ND; ComponentLink1Description: Datasheet; ComponentLink1URL: http://www.abracon.com/Oscillators/ASDMB.pdf; ComponentLink2Description: Digi-Key Listing; ComponentLink2URL: https://www.digikey.com/product-detail/en/ASDMB-25.000MHZ-EC-T/535-12140-2-ND/4199803; Price: 0.9513; Type: MEMS (Silicon); Device Package: 4-SMD, No Lead (DFN, LCC); Series: Pure Silicon™ ASDMB; Frequency: 25MHz
footprint ABRACON ASDMB
pins: 1 STBY, 2 GND, 3 OUT, 4 VDD

## ASDMB-25.000MHZ-LC-T
designator Y?, comment 25MHz
OSC MEMS 25.000MHZ CMOS SMD; Part Number: ASDMB-25.000MHZ-LC-T; Manufacturer: Abracon LLC; Frequency Stability: 50ppm; PartId: 8951; Supplier 1: Digi-Key; Supplier Part Number 1: 535-11730-2-ND; ComponentLink1Description: Datasheet; ComponentLink1URL: http://www.abracon.com/Oscillators/ASDMB.pdf; ComponentLink2Description: Digi-Key Listing; ComponentLink2URL: https://www.digikey.com/product-detail/en/ASDMB-25.000MHZ-LC-T/535-11730-2-ND/2809944; Price: 0.675; Type: MEMS (Silicon); Device Package: 4-SMD, No Lead (DFN, LCC); Series: Pure Silicon™ ASDMB; Frequency: 25MHz
footprint ABRACON ASDMB
pins: 1 STBY, 2 GND, 3 OUT, 4 VDD

## ASDMB-25.000MHZ-LR-T
designator Y?, comment 25MHz
OSC MEMS 25.000MHZ LVCMOS SMD; Part Number: ASDMB-25.000MHZ-LR-T; Manufacturer: Abracon LLC; Frequency Stability: 25ppm; PartId: 8982; Supplier 1: Digi-Key; Supplier Part Number 1: 535-12145-2-ND; ComponentLink1Description: Datasheet; ComponentLink1URL: http://www.abracon.com/Oscillators/ASDMB.pdf; ComponentLink2Description: Digi-Key Listing; ComponentLink2URL: https://www.digikey.com/product-detail/en/ASDMB-25.000MHZ-LR-T/535-12145-2-ND/4199807; Price: 0.9882; Type: MEMS (Silicon); Device Package: 4-SMD, No Lead (DFN, LCC); Series: Pure Silicon™ ASDMB; Frequency: 25MHz
footprint ABRACON ASDMB
pins: 1 STBY, 2 GND, 3 OUT, 4 VDD

## ASDMB-25.000MHZ-XY-T
designator Y?, comment 25MHz
OSC MEMS 25.000MHZ CMOS SMD; Part Number: ASDMB-25.000MHZ-XY-T; Manufacturer: Abracon LLC; Frequency Stability: 10ppm; PartId: 9009; Supplier 1: Digi-Key; Supplier Part Number 1: 535-11157-2-ND; ComponentLink1Description: Datasheet; ComponentLink1URL: http://www.abracon.com/Oscillators/ASDMB.pdf; ComponentLink2Description: Digi-Key Listing; ComponentLink2URL: https://www.digikey.com/product-detail/en/ASDMB-25.000MHZ-XY-T/535-11157-2-ND/2623834; Price: 1.4307; Type: MEMS (Silicon); Device Package: 4-SMD, No Lead (DFN, LCC); Series: Pure Silicon™ ASDMB; Frequency: 25MHz
footprint ABRACON ASDMB
pins: 1 STBY, 2 GND, 3 OUT, 4 VDD

## ASDMB-26.000MHZ-C-40-T
designator Y?, comment 26MHz
OSC MEMS 26.000MHZ LVCMOS SMD; Part Number: ASDMB-26.000MHZ-C-40-T; Manufacturer: Abracon LLC; Frequency Stability: 50ppm; PartId: 8984; Supplier 1: Digi-Key; Supplier Part Number 1: 535-12148-2-ND; ComponentLink1Description: Datasheet; ComponentLink1URL: http://www.abracon.com/Oscillators/ASDMB.pdf; ComponentLink2Description: Digi-Key Listing; ComponentLink2URL: https://www.digikey.com/product-detail/en/ASDMB-26.000MHZ-C-40-T/535-12148-2-ND/4199809; Price: 1.0767; Type: MEMS (Silicon); Device Package: 4-SMD, No Lead (DFN, LCC); Series: Pure Silicon™ ASDMB; Frequency: 26MHz
footprint ABRACON ASDMB
pins: 1 STBY, 2 GND, 3 OUT, 4 VDD

## ASDMB-26.000MHZ-EC-T
designator Y?, comment 26MHz
OSC MEMS 26.000MHZ LVCMOS SMD; Part Number: ASDMB-26.000MHZ-EC-T; Manufacturer: Abracon LLC; Frequency Stability: 50ppm; PartId: 8980; Supplier 1: Digi-Key; Supplier Part Number 1: 535-12141-2-ND; ComponentLink1Description: Datasheet; ComponentLink1URL: http://www.abracon.com/Oscillators/ASDMB.pdf; ComponentLink2Description: Digi-Key Listing; ComponentLink2URL: https://www.digikey.com/product-detail/en/ASDMB-26.000MHZ-EC-T/535-12141-2-ND/4199804; Price: 0.9513; Type: MEMS (Silicon); Device Package: 4-SMD, No Lead (DFN, LCC); Series: Pure Silicon™ ASDMB; Frequency: 26MHz
footprint ABRACON ASDMB
pins: 1 STBY, 2 GND, 3 OUT, 4 VDD

## ASDMB-26.000MHZ-LY-T
designator Y?, comment 26MHz
OSC MEMS 26.000MHZ CMOS SMD; Part Number: ASDMB-26.000MHZ-LY-T; Manufacturer: Abracon LLC; Frequency Stability: 10ppm; PartId: 8954; Supplier 1: Digi-Key; Supplier Part Number 1: 535-11189-2-ND; ComponentLink1Description: Datasheet; ComponentLink1URL: http://www.abracon.com/Oscillators/ASDMB.pdf; ComponentLink2Description: Digi-Key Listing; ComponentLink2URL: https://www.digikey.com/product-detail/en/ASDMB-26.000MHZ-LY-T/535-11189-2-ND/2623835; Price: 1.1947; Type: MEMS (Silicon); Device Package: 4-SMD, No Lead (DFN, LCC); Series: Pure Silicon™ ASDMB; Frequency: 26MHz
footprint ABRACON ASDMB
pins: 1 STBY, 2 GND, 3 OUT, 4 VDD

## ASDMB-27.000MHZ-EC-T
designator Y?, comment 27MHz
OSC MEMS 27.000MHZ LVCMOS SMD; Part Number: ASDMB-27.000MHZ-EC-T; Manufacturer: Abracon LLC; Frequency Stability: 50ppm; PartId: 8969; Supplier 1: Digi-Key; Supplier Part Number 1: 535-12142-2-ND; ComponentLink1Description: Datasheet; ComponentLink1URL: http://www.abracon.com/Oscillators/ASDMB.pdf; ComponentLink2Description: Digi-Key Listing; ComponentLink2URL: https://www.digikey.com/product-detail/en/ASDMB-27.000MHZ-EC-T/535-12142-2-ND/4199805; Price: 0.9513; Type: MEMS (Silicon); Device Package: 4-SMD, No Lead (DFN, LCC); Series: Pure Silicon™ ASDMB; Frequency: 27MHz
footprint ABRACON ASDMB
pins: 1 STBY, 2 GND, 3 OUT, 4 VDD

## ASDMB-27.000MHZ-LC-T
designator Y?, comment 27MHz
OSC MEMS 27.000MHZ CMOS SMD; Part Number: ASDMB-27.000MHZ-LC-T; Manufacturer: Abracon LLC; Frequency Stability: 50ppm; PartId: 8962; Supplier 1: Digi-Key; Supplier Part Number 1: 535-11731-2-ND; ComponentLink1Description: Datasheet; ComponentLink1URL: http://www.abracon.com/Oscillators/ASDMB.pdf; ComponentLink2Description: Digi-Key Listing; ComponentLink2URL: https://www.digikey.com/product-detail/en/ASDMB-27.000MHZ-LC-T/535-11731-2-ND/2809947; Price: 0.675; Type: MEMS (Silicon); Device Package: 4-SMD, No Lead (DFN, LCC); Series: Pure Silicon™ ASDMB; Frequency: 27MHz
footprint ABRACON ASDMB
pins: 1 STBY, 2 GND, 3 OUT, 4 VDD

## ASDMB-27.000MHZ-LY-T
designator Y?, comment 27MHz
OSC MEMS 27.000MHZ CMOS SMD; Part Number: ASDMB-27.000MHZ-LY-T; Manufacturer: Abracon LLC; Frequency Stability: 10ppm; PartId: 8993; Supplier 1: Digi-Key; Supplier Part Number 1: 535-11190-2-ND; ComponentLink1Description: Datasheet; ComponentLink1URL: http://www.abracon.com/Oscillators/ASDMB.pdf; ComponentLink2Description: Digi-Key Listing; ComponentLink2URL: https://www.digikey.com/product-detail/en/ASDMB-27.000MHZ-LY-T/535-11190-2-ND/2623837; Price: 1.2832; Type: MEMS (Silicon); Device Package: 4-SMD, No Lead (DFN, LCC); Series: Pure Silicon™ ASDMB; Frequency: 27MHz
footprint ABRACON ASDMB
pins: 1 STBY, 2 GND, 3 OUT, 4 VDD

## ASDMB-27.000MHZ-XY-T
designator Y?, comment 27MHz
OSC MEMS 27.000MHZ CMOS SMD; Part Number: ASDMB-27.000MHZ-XY-T; Manufacturer: Abracon LLC; Frequency Stability: 10ppm; PartId: 8986; Supplier 1: Digi-Key; Supplier Part Number 1: 535-11159-2-ND; ComponentLink1Description: Datasheet; ComponentLink1URL: http://www.abracon.com/Oscillators/ASDMB.pdf; ComponentLink2Description: Digi-Key Listing; ComponentLink2URL: https://www.digikey.com/product-detail/en/ASDMB-27.000MHZ-XY-T/535-11159-2-ND/2623838; Price: 1.239; Type: MEMS (Silicon); Device Package: 4-SMD, No Lead (DFN, LCC); Series: Pure Silicon™ ASDMB; Frequency: 27MHz
footprint ABRACON ASDMB
pins: 1 STBY, 2 GND, 3 OUT, 4 VDD

## ASDMB-29.4912MHZ-LY-T
designator Y?, comment 29.4912MHz
OSC MEMS 29.4912MHZ CMOS SMD; Part Number: ASDMB-29.4912MHZ-LY-T; Manufacturer: Abracon LLC; Frequency Stability: 10ppm; PartId: 8992; Supplier 1: Digi-Key; Supplier Part Number 1: 535-11191-2-ND; ComponentLink1Description: Datasheet; ComponentLink1URL: http://www.abracon.com/Oscillators/ASDMB.pdf; ComponentLink2Description: Digi-Key Listing; ComponentLink2URL: https://www.digikey.com/product-detail/en/ASDMB-29.4912MHZ-LY-T/535-11191-2-ND/2623839; Price: 1.2832; Type: MEMS (Silicon); Device Package: 4-SMD, No Lead (DFN, LCC); Series: Pure Silicon™ ASDMB; Frequency: 29.4912MHz
footprint ABRACON ASDMB
pins: 1 STBY, 2 GND, 3 OUT, 4 VDD

## ASDMB-29.4912MHZ-XY-T
designator Y?, comment 29.4912MHz
OSC MEMS 29.4912MHZ CMOS SMD; Part Number: ASDMB-29.4912MHZ-XY-T; Manufacturer: Abracon LLC; Frequency Stability: 10ppm; PartId: 9010; Supplier 1: Digi-Key; Supplier Part Number 1: 535-11160-2-ND; ComponentLink1Description: Datasheet; ComponentLink1URL: http://www.abracon.com/Oscillators/ASDMB.pdf; ComponentLink2Description: Digi-Key Listing; ComponentLink2URL: https://www.digikey.com/product-detail/en/ASDMB-29.4912MHZ-XY-T/535-11160-2-ND/2623840; Price: 1.4307; Type: MEMS (Silicon); Device Package: 4-SMD, No Lead (DFN, LCC); Series: Pure Silicon™ ASDMB; Frequency: 29.4912MHz
footprint ABRACON ASDMB
pins: 1 STBY, 2 GND, 3 OUT, 4 VDD

## ASDMB-30.000MHZ-LC-T
designator Y?, comment 30MHz
OSC MEMS 30.000MHZ CMOS SMD; Part Number: ASDMB-30.000MHZ-LC-T; Manufacturer: Abracon LLC; Frequency Stability: 50ppm; PartId: 8976; Supplier 1: Digi-Key; Supplier Part Number 1: 535-11733-2-ND; ComponentLink1Description: Datasheet; ComponentLink1URL: http://www.abracon.com/Oscillators/ASDMB.pdf; ComponentLink2Description: Digi-Key Listing; ComponentLink2URL: https://www.digikey.com/product-detail/en/ASDMB-30.000MHZ-LC-T/535-11733-2-ND/2809953; Price: 0.675; Type: MEMS (Silicon); Device Package: 4-SMD, No Lead (DFN, LCC); Series: Pure Silicon™ ASDMB; Frequency: 30MHz
footprint ABRACON ASDMB
pins: 1 STBY, 2 GND, 3 OUT, 4 VDD

## ASDMB-32.000MHZ-LC-T
designator Y?, comment 32MHz
OSC MEMS 32.000MHZ CMOS SMD; Part Number: ASDMB-32.000MHZ-LC-T; Manufacturer: Abracon LLC; Frequency Stability: 50ppm; PartId: 8964; Supplier 1: Digi-Key; Supplier Part Number 1: 535-11734-2-ND; ComponentLink1Description: Datasheet; ComponentLink1URL: http://www.abracon.com/Oscillators/ASDMB.pdf; ComponentLink2Description: Digi-Key Listing; ComponentLink2URL: https://www.digikey.com/product-detail/en/ASDMB-32.000MHZ-LC-T/535-11734-2-ND/2809956; Price: 0.675; Type: MEMS (Silicon); Device Package: 4-SMD, No Lead (DFN, LCC); Series: Pure Silicon™ ASDMB; Frequency: 32MHz
footprint ABRACON ASDMB
pins: 1 STBY, 2 GND, 3 OUT, 4 VDD

## ASDMB-32.000MHZ-LY-T
designator Y?, comment 32MHz
OSC MEMS 32.000MHZ CMOS SMD; Part Number: ASDMB-32.000MHZ-LY-T; Manufacturer: Abracon LLC; Frequency Stability: 10ppm; PartId: 8989; Supplier 1: Digi-Key; Supplier Part Number 1: 535-11194-2-ND; ComponentLink1Description: Datasheet; ComponentLink1URL: http://www.abracon.com/Oscillators/ASDMB.pdf; ComponentLink2Description: Digi-Key Listing; ComponentLink2URL: https://www.digikey.com/product-detail/en/ASDMB-32.000MHZ-LY-T/535-11194-2-ND/2623845; Price: 1.2832; Type: MEMS (Silicon); Device Package: 4-SMD, No Lead (DFN, LCC); Series: Pure Silicon™ ASDMB; Frequency: 32MHz
footprint ABRACON ASDMB
pins: 1 STBY, 2 GND, 3 OUT, 4 VDD

## ASDMB-33.000MHZ-LC-T
designator Y?, comment 33MHz
OSC MEMS 33.000MHZ CMOS SMD; Part Number: ASDMB-33.000MHZ-LC-T; Manufacturer: Abracon LLC; Frequency Stability: 50ppm; PartId: 8978; Supplier 1: Digi-Key; Supplier Part Number 1: 535-11735-2-ND; ComponentLink1Description: Datasheet; ComponentLink1URL: http://www.abracon.com/Oscillators/ASDMB.pdf; ComponentLink2Description: Digi-Key Listing; ComponentLink2URL: https://www.digikey.com/product-detail/en/ASDMB-33.000MHZ-LC-T/535-11735-2-ND/2809959; Price: 0.675; Type: MEMS (Silicon); Device Package: 4-SMD, No Lead (DFN, LCC); Series: Pure Silicon™ ASDMB; Frequency: 33MHz
footprint ABRACON ASDMB
pins: 1 STBY, 2 GND, 3 OUT, 4 VDD

## ASDMB-33.000MHZ-XY-T
designator Y?, comment 33MHz
OSC MEMS 33.000MHZ CMOS SMD; Part Number: ASDMB-33.000MHZ-XY-T; Manufacturer: Abracon LLC; Frequency Stability: 10ppm; PartId: 8974; Supplier 1: Digi-Key; Supplier Part Number 1: 535-11164-2-ND; ComponentLink1Description: Datasheet; ComponentLink1URL: http://www.abracon.com/Oscillators/ASDMB.pdf; ComponentLink2Description: Digi-Key Listing; ComponentLink2URL: https://www.digikey.com/product-detail/en/ASDMB-33.000MHZ-XY-T/535-11164-2-ND/2623848; Price: 1.4307; Type: MEMS (Silicon); Device Package: 4-SMD, No Lead (DFN, LCC); Series: Pure Silicon™ ASDMB; Frequency: 33MHz
footprint ABRACON ASDMB
pins: 1 STBY, 2 GND, 3 OUT, 4 VDD

## ASDMB-33.333MHZ-LY-T
designator Y?, comment 33.333MHz
OSC MEMS 33.333MHZ CMOS SMD; Part Number: ASDMB-33.333MHZ-LY-T; Manufacturer: Abracon LLC; Frequency Stability: 10ppm; PartId: 8958; Supplier 1: Digi-Key; Supplier Part Number 1: 535-11196-2-ND; ComponentLink1Description: Datasheet; ComponentLink1URL: http://www.abracon.com/Oscillators/ASDMB.pdf; ComponentLink2Description: Digi-Key Listing; ComponentLink2URL: https://www.digikey.com/product-detail/en/ASDMB-33.333MHZ-LY-T/535-11196-2-ND/2623849; Price: 1.2832; Type: MEMS (Silicon); Device Package: 4-SMD, No Lead (DFN, LCC); Series: Pure Silicon™ ASDMB; Frequency: 33.333MHz
footprint ABRACON ASDMB
pins: 1 STBY, 2 GND, 3 OUT, 4 VDD

## ASDMB-33.333MHZ-XY-T
designator Y?, comment 33.333MHz
OSC MEMS 33.333MHZ CMOS SMD; Part Number: ASDMB-33.333MHZ-XY-T; Manufacturer: Abracon LLC; Frequency Stability: 10ppm; PartId: 9005; Supplier 1: Digi-Key; Supplier Part Number 1: 535-11143-2-ND; ComponentLink1Description: Datasheet; ComponentLink1URL: http://www.abracon.com/Oscillators/ASDMB.pdf; ComponentLink2Description: Digi-Key Listing; ComponentLink2URL: https://www.digikey.com/product-detail/en/ASDMB-33.333MHZ-XY-T/535-11143-2-ND/2623850; Price: 1.4307; Type: MEMS (Silicon); Device Package: 4-SMD, No Lead (DFN, LCC); Series: Pure Silicon™ ASDMB; Frequency: 33.333MHz
footprint ABRACON ASDMB
pins: 1 STBY, 2 GND, 3 OUT, 4 VDD

## ASDMB-44.000MHZ-XY-T
designator Y?, comment 44MHz
OSC MEMS 44.000MHZ CMOS SMD; Part Number: ASDMB-44.000MHZ-XY-T; Manufacturer: Abracon LLC; Frequency Stability: 10ppm; PartId: 9008; Supplier 1: Digi-Key; Supplier Part Number 1: 535-11166-2-ND; ComponentLink1Description: Datasheet; ComponentLink1URL: http://www.abracon.com/Oscillators/ASDMB.pdf; ComponentLink2Description: Digi-Key Listing; ComponentLink2URL: https://www.digikey.com/product-detail/en/ASDMB-44.000MHZ-XY-T/535-11166-2-ND/2623854; Price: 1.4307; Type: MEMS (Silicon); Device Package: 4-SMD, No Lead (DFN, LCC); Series: Pure Silicon™ ASDMB; Frequency: 44MHz
footprint ABRACON ASDMB
pins: 1 STBY, 2 GND, 3 OUT, 4 VDD

## ASDMB-48.000MHZ-LC-T
designator Y?, comment 48MHz
OSC MEMS 48.000MHZ CMOS SMD; Part Number: ASDMB-48.000MHZ-LC-T; Manufacturer: Abracon LLC; Frequency Stability: 50ppm; PartId: 8952; Supplier 1: Digi-Key; Supplier Part Number 1: 535-11737-2-ND; ComponentLink1Description: Datasheet; ComponentLink1URL: http://www.abracon.com/Oscillators/ASDMB.pdf; ComponentLink2Description: Digi-Key Listing; ComponentLink2URL: https://www.digikey.com/product-detail/en/ASDMB-48.000MHZ-LC-T/535-11737-2-ND/2809965; Price: 0.675; Type: MEMS (Silicon); Device Package: 4-SMD, No Lead (DFN, LCC); Series: Pure Silicon™ ASDMB; Frequency: 48MHz
footprint ABRACON ASDMB
pins: 1 STBY, 2 GND, 3 OUT, 4 VDD

## ASDMB-48.000MHZ-LY-T
designator Y?, comment 48MHz
OSC MEMS 48.000MHZ CMOS SMD; Part Number: ASDMB-48.000MHZ-LY-T; Manufacturer: Abracon LLC; Frequency Stability: 10ppm; PartId: 8990; Supplier 1: Digi-Key; Supplier Part Number 1: 535-11198-2-ND; ComponentLink1Description: Datasheet; ComponentLink1URL: http://www.abracon.com/Oscillators/ASDMB.pdf; ComponentLink2Description: Digi-Key Listing; ComponentLink2URL: https://www.digikey.com/product-detail/en/ASDMB-48.000MHZ-LY-T/535-11198-2-ND/2623855; Price: 1.2832; Type: MEMS (Silicon); Device Package: 4-SMD, No Lead (DFN, LCC); Series: Pure Silicon™ ASDMB; Frequency: 48MHz
footprint ABRACON ASDMB
pins: 1 STBY, 2 GND, 3 OUT, 4 VDD

## ASDMB-48.000MHZ-XY-T
designator Y?, comment 48MHz
OSC MEMS 48.000MHZ CMOS SMD; Part Number: ASDMB-48.000MHZ-XY-T; Manufacturer: Abracon LLC; Frequency Stability: 10ppm; PartId: 8960; Supplier 1: Digi-Key; Supplier Part Number 1: 535-11144-2-ND; ComponentLink1Description: Datasheet; ComponentLink1URL: http://www.abracon.com/Oscillators/ASDMB.pdf; ComponentLink2Description: Digi-Key Listing; ComponentLink2URL: https://www.digikey.com/product-detail/en/ASDMB-48.000MHZ-XY-T/535-11144-2-ND/2623856; Price: 1.4307; Type: MEMS (Silicon); Device Package: 4-SMD, No Lead (DFN, LCC); Series: Pure Silicon™ ASDMB; Frequency: 48MHz
footprint ABRACON ASDMB
pins: 1 STBY, 2 GND, 3 OUT, 4 VDD

## ASDMB-50.000MHZ-C-40-T
designator Y?, comment 50MHz
OSC MEMS 50.000MHZ LVCMOS SMD; Part Number: ASDMB-50.000MHZ-C-40-T; Manufacturer: Abracon LLC; Frequency Stability: 50ppm; PartId: 8983; Supplier 1: Digi-Key; Supplier Part Number 1: 535-12149-2-ND; ComponentLink1Description: Datasheet; ComponentLink1URL: http://www.abracon.com/Oscillators/ASDMB.pdf; ComponentLink2Description: Digi-Key Listing; ComponentLink2URL: https://www.digikey.com/product-detail/en/ASDMB-50.000MHZ-C-40-T/535-12149-2-ND/4199810; Price: 1.0767; Type: MEMS (Silicon); Device Package: 4-SMD, No Lead (DFN, LCC); Series: Pure Silicon™ ASDMB; Frequency: 50MHz
footprint ABRACON ASDMB
pins: 1 STBY, 2 GND, 3 OUT, 4 VDD

## ASDMB-50.000MHZ-EC-T
designator Y?, comment 50MHz
OSC MEMS 50.000MHZ LVCMOS SMD; Part Number: ASDMB-50.000MHZ-EC-T; Manufacturer: Abracon LLC; Frequency Stability: 50ppm; PartId: 8970; Supplier 1: Digi-Key; Supplier Part Number 1: 535-12143-2-ND; ComponentLink1Description: Datasheet; ComponentLink1URL: http://www.abracon.com/Oscillators/ASDMB.pdf; ComponentLink2Description: Digi-Key Listing; ComponentLink2URL: https://www.digikey.com/product-detail/en/ASDMB-50.000MHZ-EC-T/535-12143-2-ND/4199806; Price: 0.9513; Type: MEMS (Silicon); Device Package: 4-SMD, No Lead (DFN, LCC); Series: Pure Silicon™ ASDMB; Frequency: 50MHz
footprint ABRACON ASDMB
pins: 1 STBY, 2 GND, 3 OUT, 4 VDD

## ASDMB-50.000MHZ-LC-T
designator Y?, comment 50MHz
OSC MEMS 50.000MHZ CMOS SMD; Part Number: ASDMB-50.000MHZ-LC-T; Manufacturer: Abracon LLC; Frequency Stability: 50ppm; PartId: 8949; Supplier 1: Digi-Key; Supplier Part Number 1: 535-11738-2-ND; ComponentLink1Description: Datasheet; ComponentLink1URL: http://www.abracon.com/Oscillators/ASDMB.pdf; ComponentLink2Description: Digi-Key Listing; ComponentLink2URL: https://www.digikey.com/product-detail/en/ASDMB-50.000MHZ-LC-T/535-11738-2-ND/2809968; Price: 0.675; Type: MEMS (Silicon); Device Package: 4-SMD, No Lead (DFN, LCC); Series: Pure Silicon™ ASDMB; Frequency: 50MHz
footprint ABRACON ASDMB
pins: 1 STBY, 2 GND, 3 OUT, 4 VDD

## ASDMB-50.000MHZ-LY-T
designator Y?, comment 50MHz
OSC MEMS 50.000MHZ CMOS SMD; Part Number: ASDMB-50.000MHZ-LY-T; Manufacturer: Abracon LLC; Frequency Stability: 10ppm; PartId: 8957; Supplier 1: Digi-Key; Supplier Part Number 1: 535-11176-2-ND; ComponentLink1Description: Datasheet; ComponentLink1URL: http://www.abracon.com/Oscillators/ASDMB.pdf; ComponentLink2Description: Digi-Key Listing; ComponentLink2URL: https://www.digikey.com/product-detail/en/ASDMB-50.000MHZ-LY-T/535-11176-2-ND/2623857; Price: 1.2832; Type: MEMS (Silicon); Device Package: 4-SMD, No Lead (DFN, LCC); Series: Pure Silicon™ ASDMB; Frequency: 50MHz
footprint ABRACON ASDMB
pins: 1 STBY, 2 GND, 3 OUT, 4 VDD

## ASDMB-50.000MHZ-XY-T
designator Y?, comment 50MHz
OSC MEMS 50.000MHZ CMOS SMD; Part Number: ASDMB-50.000MHZ-XY-T; Manufacturer: Abracon LLC; Frequency Stability: 10ppm; PartId: 9000; Supplier 1: Digi-Key; Supplier Part Number 1: 535-11167-2-ND; ComponentLink1Description: Datasheet; ComponentLink1URL: http://www.abracon.com/Oscillators/ASDMB.pdf; ComponentLink2Description: Digi-Key Listing; ComponentLink2URL: https://www.digikey.com/product-detail/en/ASDMB-50.000MHZ-XY-T/535-11167-2-ND/2623858; Price: 1.4307; Type: MEMS (Silicon); Device Package: 4-SMD, No Lead (DFN, LCC); Series: Pure Silicon™ ASDMB; Frequency: 50MHz
footprint ABRACON ASDMB
pins: 1 STBY, 2 GND, 3 OUT, 4 VDD